# Altium footprint library Potentiometer_THT.PcbLib: 106 footprints (part 7 of 7)
Each footprint in its own frame and in the unit in brackets; x right, y up, seen from the top. Pads: shape width x height; smd on the part's side, far side on the other; paste and mask are expansions set on the pad; w line width, h text height; cw(c..) or ccw(c..) is an arc to the next point about the centre after c.
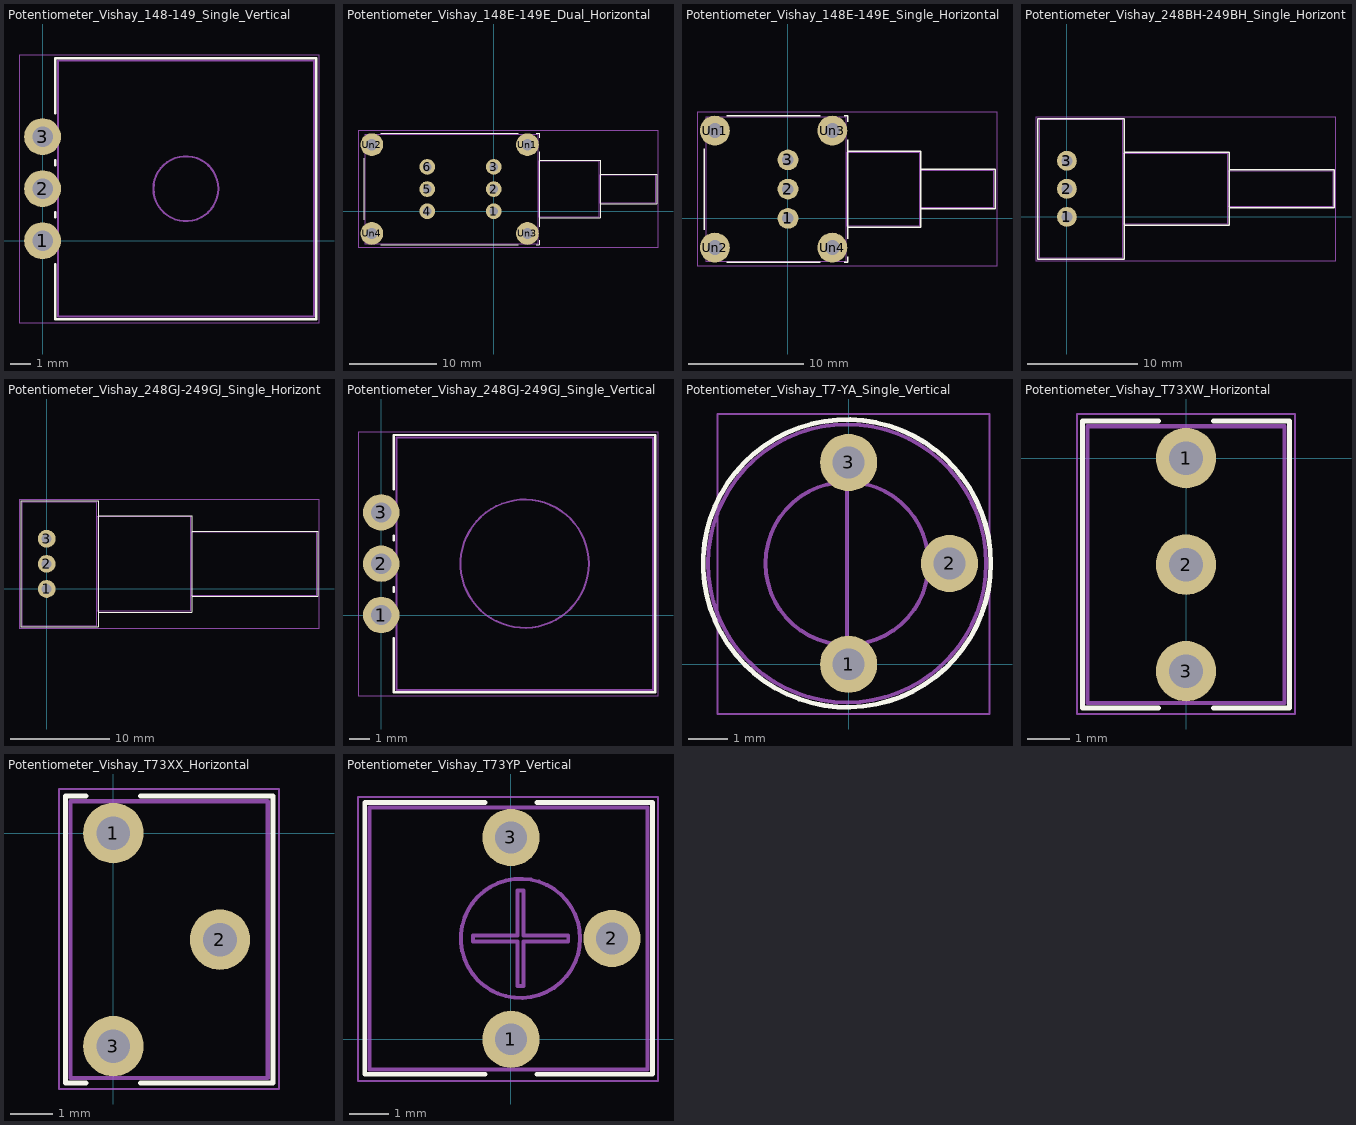
[diagram p6: the footprints below, top view; thin cyan lines are the x and y axes]

## Potentiometer_Vishay_148-149_Single_Vertical [mm]
pads (3):
  round 1.8 hole 1: 1(0,0) 2(0,2.54) 3(0,5.08)
F.SilkS:
  lines w0.12: 0.63,-1.155 0.63,-3.83 13.37,-3.83 13.37,8.91 0.63,8.91 0.63,6.235 ; 0.63,1.155 0.63,1.384 ; 0.63,3.695 0.63,3.925
F.CrtYd:
  lines w0.05: -1.15,-4 13.5,-4 13.5,9.05 -1.15,9.05 -1.15,-4
F.Fab:
  circle w0.1: c7,2.54 r1.585
  lines w0.1: 0.75,-3.71 13.25,-3.71 13.25,8.79 0.75,8.79 0.75,-3.71
  text "'.Designator'" at 2.59,-1.507 h1

## Potentiometer_Vishay_148E-149E_Dual_Horizontal [mm]
pads (10):
  round 1.8 hole 1: 1(0,0) 2(0,2.54) 3(0,5.08) 4(-7.62,0) 5(-7.62,2.54) 6(-7.62,5.08)
  round 2.6 hole 1.3: Un1(3.85,7.62) Un2(-13.97,7.62) Un3(3.85,-2.54) Un4(-13.97,-2.54)
F.SilkS:
  lines w0.12: -14.88,-0.985 -14.88,6.065 ; -12.937,-3.83 2.817,-3.83 ; -12.937,8.91 2.817,8.91 ; 4.884,-3.83 5.2,-3.83 5.2,-3.326 ; 4.884,8.91 5.2,8.91 5.2,8.405 ; 5.2,-1.756 5.2,6.836 ; 5.2,-0.755 12.2,-0.755 12.2,5.835 5.2,5.835 5.2,-0.755 ; 12.2,0.835 12.2,4.244 18.65,4.244 18.65,0.835 12.2,0.835
F.CrtYd:
  lines w0.05: -15.55,-4.1 18.8,-4.1 18.8,9.2 -15.55,9.2 -15.55,-4.1
F.Fab:
  lines w0.1: -14.76,-3.71 5.08,-3.71 5.08,8.79 -14.76,8.79 -14.76,-3.71 ; 5.08,-0.635 5.08,5.715 12.08,5.715 12.08,-0.635 5.08,-0.635 ; 12.08,0.955 12.08,4.125 18.53,4.125 18.53,0.955 12.08,0.955
  text "'.Designator'" at -8.887,1.7 h1

## Potentiometer_Vishay_148E-149E_Single_Horizontal [mm]
pads (7):
  round 1.8 hole 1: 1(0,0) 2(0,2.54) 3(0,5.08)
  round 2.6 hole 1.3: Un1(-6.35,7.62) Un2(-6.35,-2.54) Un3(3.85,7.62) Un4(3.85,-2.54)
F.SilkS:
  lines w0.12: -7.26,-0.985 -7.26,6.065 ; -5.317,-3.83 2.817,-3.83 ; -5.317,8.91 2.817,8.91 ; 4.884,-3.83 5.2,-3.83 5.2,-3.326 ; 4.884,8.91 5.2,8.91 5.2,8.405 ; 5.2,-1.756 5.2,6.836 ; 5.2,-0.755 11.55,-0.755 11.55,5.835 5.2,5.835 5.2,-0.755 ; 11.55,0.835 11.55,4.244 18,4.244 18,0.835 11.55,0.835
F.CrtYd:
  lines w0.05: -7.9,-4.1 18.15,-4.1 18.15,9.2 -7.9,9.2 -7.9,-4.1
F.Fab:
  lines w0.1: -7.14,-3.71 -7.14,8.79 5.08,8.79 5.08,-3.71 -7.14,-3.71 ; 5.08,-0.635 11.43,-0.635 11.43,5.715 5.08,5.715 5.08,-0.635 ; 11.43,0.955 17.88,0.955 17.88,4.125 11.43,4.125 11.43,0.955
  text "'.Designator'" at -5.077,1.7 h1

## Potentiometer_Vishay_248BH-249BH_Single_Horizontal [mm]
pads (3):
  round 1.8 hole 1: 1(0,0) 2(0,2.54) 3(0,5.08)
F.SilkS:
  lines w0.12: -2.64,-3.83 5.2,-3.83 5.2,8.91 -2.64,8.91 -2.64,-3.83 ; 5.2,-0.755 14.7,-0.755 14.7,5.835 5.2,5.835 5.2,-0.755 ; 14.7,0.83 14.7,4.249 24.25,4.249 24.25,0.83 14.7,0.83
F.CrtYd:
  lines w0.05: -2.8,-4 24.4,-4 24.4,9.05 -2.8,9.05 -2.8,-4
F.Fab:
  lines w0.1: -2.52,-3.71 -2.52,8.79 5.08,8.79 5.08,-3.71 -2.52,-3.71 ; 5.08,-0.635 5.08,5.715 14.58,5.715 14.58,-0.635 5.08,-0.635 ; 14.58,0.95 24.13,0.95 24.13,4.13 14.58,4.13 14.58,0.95
  text "'.Designator'" at -2.767,1.7 h1

## Potentiometer_Vishay_248GJ-249GJ_Single_Horizontal [mm]
pads (3):
  round 1.8 hole 1: 1(0,0) 2(0,2.54) 3(0,5.08)
F.SilkS:
  lines w0.12: -2.64,-3.83 5.2,-3.83 5.2,8.91 -2.64,8.91 -2.64,-3.83 ; 5.2,-2.343 5.2,7.423 14.7,7.423 14.7,-2.343 5.2,-2.343 ; 14.7,-0.755 14.7,5.835 27.42,5.835 27.42,-0.755 14.7,-0.755
F.CrtYd:
  lines w0.05: -2.8,-4 -2.8,9.05 27.55,9.05 27.55,-4 -2.8,-4
F.Fab:
  lines w0.1: -2.52,-3.71 -2.52,8.79 5.08,8.79 5.08,-3.71 -2.52,-3.71 ; 5.08,-2.222 14.58,-2.222 14.58,7.302 5.08,7.302 5.08,-2.222 ; 14.58,-0.635 27.3,-0.635 27.3,5.715 14.58,5.715 14.58,-0.635
  text "'.Designator'" at -2.767,1.7 h1

## Potentiometer_Vishay_248GJ-249GJ_Single_Vertical [mm]
pads (3):
  round 1.8 hole 1: 1(0,0) 2(0,2.54) 3(0,5.08)
F.SilkS:
  lines w0.12: 0.63,-1.155 0.63,-3.83 13.57,-3.83 13.57,8.91 0.63,8.91 0.63,6.235 ; 0.63,1.155 0.63,1.384 ; 0.63,3.695 0.63,3.925
F.CrtYd:
  lines w0.05: -1.15,-4 -1.15,9.05 13.7,9.05 13.7,-4 -1.15,-4
F.Fab:
  circle w0.1: c7.1,2.54 r3.175
  lines w0.1: 0.75,-3.71 0.75,8.79 13.45,8.79 13.45,-3.71 0.75,-3.71
  text "'.Designator'" at 2.59,-1.507 h1

## Potentiometer_Vishay_T7-YA_Single_Vertical [mm]
pads (3):
  round 1.44 hole 0.8: 1(0,0) 2(2.54,2.54) 3(0,5.08)
F.SilkS:
  circle w0.12: c-0.041,2.54 r3.62
F.CrtYd:
  lines w0.05: -3.3,-1.25 -3.3,6.3 3.55,6.3 3.55,-1.25 -3.3,-1.25
F.Fab:
  circle w0.1: c-0.041,2.54 r2.05
  circle w0.1: c-0.04,2.54 r3.5
  lines w0.1: -0.041,0.51 -0.04,4.569 -0.041,0.51
  text "'.Designator'" at -2.01,-0.455 h0.73

## Potentiometer_Vishay_T73XW_Horizontal [mm]
pads (3):
  round 1.44 hole 0.8: 1(0,0) 2(0,-2.54) 3(0,-5.08)
F.SilkS:
  lines w0.12: -0.65,-5.96 -2.47,-5.96 -2.47,0.88 -0.65,0.88 ; 0.65,-5.96 2.47,-5.96 2.47,0.88 0.65,0.88
F.CrtYd:
  lines w0.05: -2.6,-6.1 -2.6,1.05 2.6,1.05 2.6,-6.1 -2.6,-6.1
F.Fab:
  lines w0.1: -2.35,-5.84 -2.35,0.76 2.35,0.76 2.35,-5.84 -2.35,-5.84
  text "'.Designator'" at -4.047,-3.38 h1

## Potentiometer_Vishay_T73XX_Horizontal [mm]
pads (3):
  round 1.44 hole 0.8: 1(0,0) 2(2.54,-2.54) 3(0,-5.08)
F.SilkS:
  lines w0.12: -0.65,-5.96 -1.14,-5.96 -1.14,0.88 -0.65,0.88 ; 0.65,-5.96 3.8,-5.96 3.8,0.88 0.65,0.88
F.CrtYd:
  lines w0.05: -1.3,-6.1 -1.3,1.05 3.95,1.05 3.95,-6.1 -1.3,-6.1
F.Fab:
  lines w0.1: -1.02,-5.84 3.68,-5.84 3.68,0.76 -1.02,0.76 -1.02,-5.84
  text "'.Designator'" at -2.717,-3.38 h1

## Potentiometer_Vishay_T73YP_Vertical [mm]
pads (3):
  round 1.44 hole 0.8: 1(0,0) 2(2.54,2.54) 3(0,5.08)
F.SilkS:
  lines w0.12: -0.65,-0.88 -3.68,-0.88 -3.68,5.96 -0.65,5.96 ; 0.65,-0.88 3.56,-0.88 3.56,5.96 0.65,5.96
F.CrtYd:
  lines w0.05: -3.85,-1.05 -3.85,6.1 3.7,6.1 3.7,-1.05 -3.85,-1.05
F.Fab:
  circle w0.1: c0.24,2.54 r1.5
  lines w0.1: -3.56,-0.76 -3.56,5.84 3.44,5.84 3.44,-0.76 -3.56,-0.76 ; -0.961,2.464 0.164,2.464 0.164,1.339 0.316,1.339 0.316,2.464 1.441,2.464 1.441,2.616 0.316,2.616 0.316,3.741 0.164,3.741 0.164,2.616 -0.961,2.616 -0.961,2.464
  text "'.Designator'" at -1.72,-1.507 h1